# Altium integrated library BB Digital Filter.IntLib: 3 symbols
Pins are listed as number, name and electrical type; pins without a type are passive.

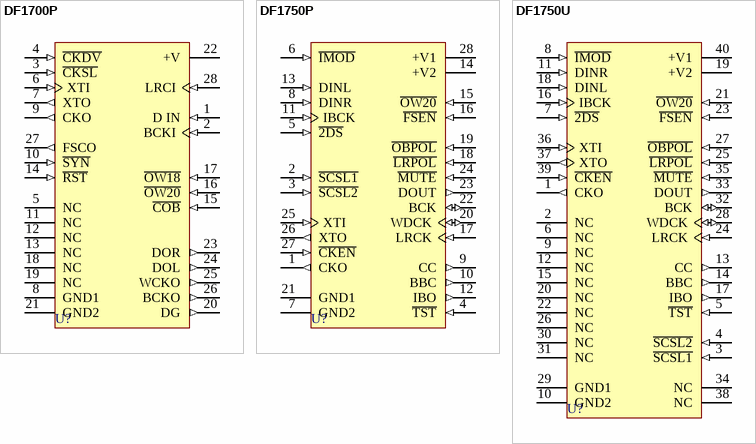
[diagram p0: symbols DF1700P to DF1750U]

## DF1700P
designator U?
Dual Channel, 8x Oversampling Digital Filter; Note: Pins 5, 11, 12, 13, 18 and 19 are No internal Connection (NC) pins.; Published: 8-Jun-2000; LatestRevisionDate: 06-Jun-2005; LatestRevisionNote: Stylized 3D Model Added.; DatasheetVersion: 1994; PackageVersion: revJ; PackageReference: 215J; Publisher: Altium Limited; PackageDescription: DIP; 28 Leads; Row Spacing 15.24 mm; Pitch 2.54 mm; Code_JEDEC: MS-011-AB; ComponentLink1Description: Manufacturer Link; ComponentLink1URL: http://www.ti.com/
footprint 215J (DIP; 28 Leads; Row Spacing 15.24 mm; Pitch 2.54 mm)
3D model 215J (DIP; 28 Leads; Row Spacing 15.24 mm; Pitch 2.54 mm)
pins: 1 D IN (in), 2 BCKI (in), 3 ~{CKSL} (in), 4 ~{CKDV} (in), 5 NC, 6 XTI (in), 7 XTO (out), 8 GND1 (power), 9 CKO (out), 10 ~{SYN} (in), 11 NC, 12 NC, 13 NC, 14 ~{RST} (in), 15 ~{COB} (in), 16 ~{OW20} (in), 17 ~{OW18} (in), 18 NC, 19 NC, 20 DG (out), 21 GND2 (power), 22 +V (power), 23 DOR (out), 24 DOL (out), 25 WCKO (out), 26 BCKO (out), 27 FSCO (out), 28 LRCI (in)

## DF1750P
designator U?
Dual Channel Digital Decimation Filter; Published: 8-Jun-2000; LatestRevisionDate: 06-Jun-2005; LatestRevisionNote: Stylized 3D Model Added.; DatasheetVersion: 1994; PackageVersion: revJ; PackageReference: 215J; Publisher: Altium Limited; PackageDescription: DIP; 28 Leads; Row Spacing 15.24 mm; Pitch 2.54 mm; Code_JEDEC: MS-011-AB; ComponentLink1Description: Manufacturer Link; ComponentLink1URL: http://www.ti.com/
footprint 215J (DIP; 28 Leads; Row Spacing 15.24 mm; Pitch 2.54 mm)
3D model 215J (DIP; 28 Leads; Row Spacing 15.24 mm; Pitch 2.54 mm)
pins: 1 CKO (out), 2 ~{SCSL1} (in), 3 ~{SCSL2} (in), 4 ~{TST} (in), 5 ~{2DS} (in), 6 ~{IMOD} (in), 7 GND2 (power), 8 DINR (in), 9 CC (out), 10 BBC (out), 11 IBCK (in), 12 IBO (out), 13 DINL (in), 14 +V2 (power), 15 ~{OW20} (in), 16 ~{FSEN} (in), 17 LRCK (in), 18 ~{LRPOL} (in), 19 ~{OBPOL} (in), 20 WDCK (io), 21 GND1 (power), 22 BCK (io), 23 DOUT (out), 24 ~{MUTE} (in), 25 XTI (in), 26 XTO (out), 27 ~{CKEN} (in), 28 +V1 (power)

## DF1750U
designator U?
Dual Channel Digital Decimation Filter; Note: Pins 2, 6, 9,12,15, 20, 22, 26, 30, 31, 34 and 38 are No internal Connection (NC) pins.; Published: 8-Jun-2000; LatestRevisionDate: 13-Apr-2006; LatestRevisionNote: IPC-7351 Footprint Added.; DatasheetVersion: 1994; PackageVersion: 1994; PackageReference: 252; Publisher: Altium Limited; PackageDescription: 40-Pin Small Outline Integrated Circuit 1.27 mm Pitch; ComponentLink1Description: Manufacturer Link; ComponentLink1URL: http://www.ti.com/
footprint 252_N (SOIC, 40-Leads, Body 26.6x9.4mm, Pitch 1.27mm, IPC Medium Density)
footprint 252_L (SOIC, 40-Leads, Body 26.6x9.4mm, Pitch 1.27mm, IPC High Density)
footprint 252_M (SOIC, 40-Leads, Body 26.6x9.4mm, Pitch 1.27mm, IPC Low Density)
3D model 252 (40-Pin Small Outline Integrated Circuit 1.27 mm Pitch)
pins: 1 CKO (out), 2 NC, 3 ~{SCSL1} (in), 4 ~{SCSL2} (in), 5 ~{TST} (in), 6 NC, 7 ~{2DS} (in), 8 ~{IMOD} (in), 9 NC, 10 GND2 (power), 11 DINR (in), 12 NC, 13 CC (out), 14 BBC (out), 15 NC, 16 IBCK (in), 17 IBO (out), 18 DINL (in), 19 +V2 (power), 20 NC, 21 ~{OW20} (in), 22 NC, 23 ~{FSEN} (in), 24 LRCK (in), 25 ~{LRPOL} (in), 26 NC, 27 ~{OBPOL} (in), 28 WDCK (io), 29 GND1 (power), 30 NC, 31 NC, 32 BCK (io), 33 DOUT (out), 34 NC, 35 ~{MUTE} (in), 36 XTI (in), 37 XTO (out), 38 NC, 39 ~{CKEN} (in), 40 +V1 (power)